# Altium footprint library DO-41.PcbLib: 1 footprints
Each footprint in its own frame and in the unit in brackets; x right, y up, seen from the top. Pads: shape width x height; smd on the part's side, far side on the other; paste and mask are expansions set on the pad; w line width, h text height; cw(c..) or ccw(c..) is an arc to the next point about the centre after c.
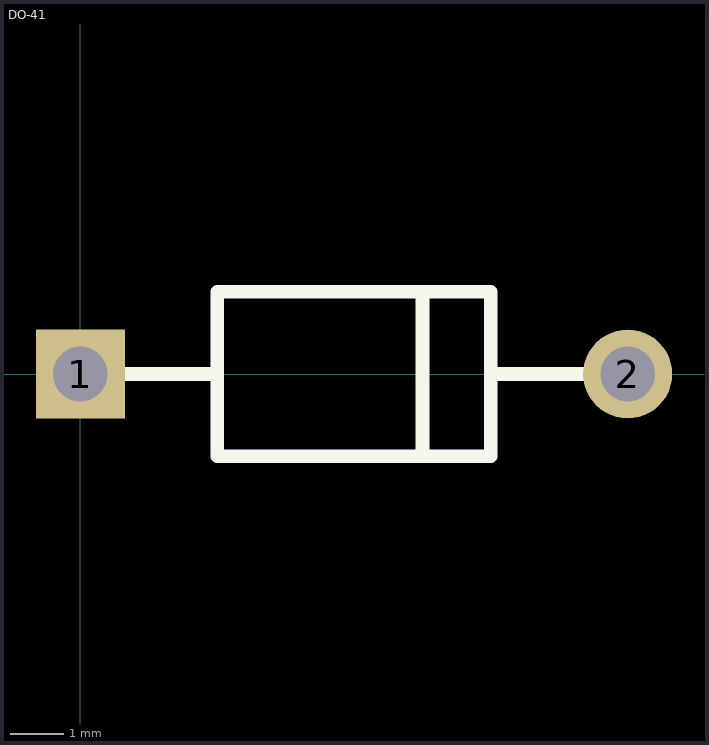
[diagram p0: the footprint, top view; thin cyan lines are the x and y axes]

## DO-41 [mil]
pads (2):
  rect 65x65 hole 40: 1(0,0)
  round 65 hole 40: 2(400,0)
Top Overlay:
  lines w10: 5,0 100,0 ; 250,-55 250,60 ; 300,0 400,0 ; 100,-60 100,60 300,60 300,-60 100,-60
3D body: height 119.53, standoff 0, extent 100,-59.88 300,59.88